# EAGLE library part MIMXRT1021DAG5A (library MIMXRT1021DAG5A)
Processors - Application Specialized i.MXRT1020 144LQFP Source: Datasheet <http://www.nxp.com/docs/en/data-sheet/IMXRT1020CEC.pdf>
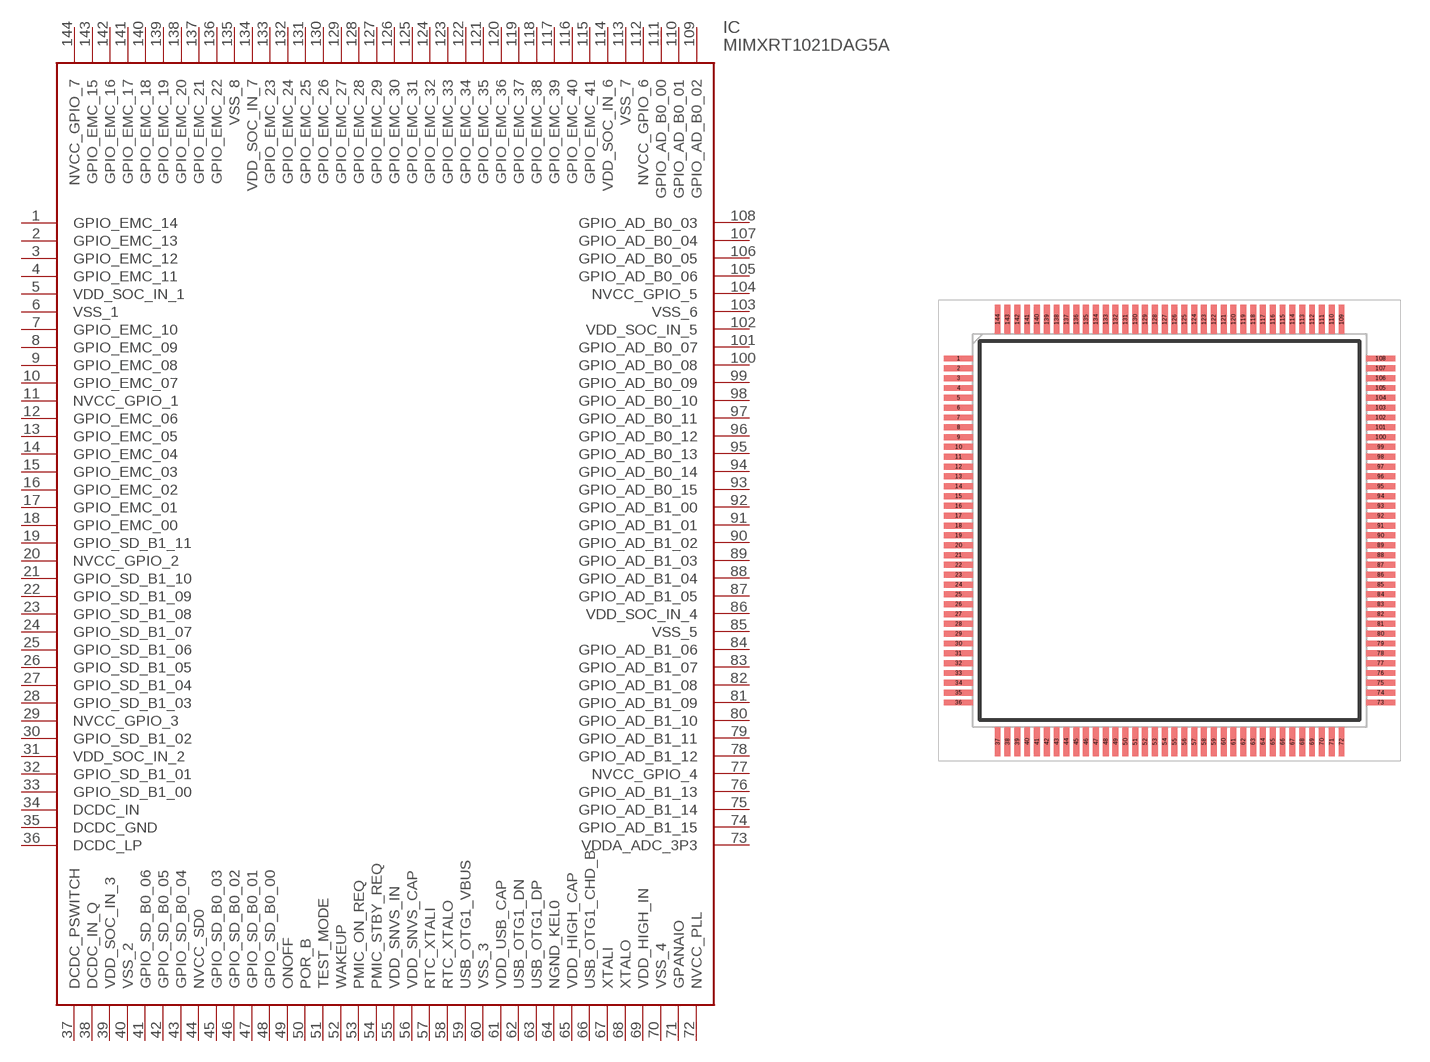
[diagram p0: symbol with the pads of QFP50P2200X2200X160-144N; footprint QFP50P2200X2200X160-144N]

Designator prefix IC

## MIMXRT1021DAG5A (Description: Processors - Application Specialized i.MXRT1020 144LQFP; Height: 1.6mm; Manufacturer_Name: NXP; Manufacturer_Part_Number: MIMXRT1021DAG5A; Mouser_Part_Number: 771-MIMXRT1021DAG5A; Mouser_Price-Stock: https://www.mouser.co.uk/ProductDetail/NXP-Semiconductors/MIMXRT1021DAG5A?qs=r5DSvlrkXmJQSAxQ927JGQ%3D%3D)  [QFP50P2200X2200X160-144N]
1  GPIO_EMC_14
2  GPIO_EMC_13
3  GPIO_EMC_12
4  GPIO_EMC_11
5  VDD_SOC_IN_1
6  VSS_1
7  GPIO_EMC_10
8  GPIO_EMC_09
9  GPIO_EMC_08
10  GPIO_EMC_07
11  NVCC_GPIO_1
12  GPIO_EMC_06
13  GPIO_EMC_05
14  GPIO_EMC_04
15  GPIO_EMC_03
16  GPIO_EMC_02
17  GPIO_EMC_01
18  GPIO_EMC_00
19  GPIO_SD_B1_11
20  NVCC_GPIO_2
21  GPIO_SD_B1_10
22  GPIO_SD_B1_09
23  GPIO_SD_B1_08
24  GPIO_SD_B1_07
25  GPIO_SD_B1_06
26  GPIO_SD_B1_05
27  GPIO_SD_B1_04
28  GPIO_SD_B1_03
29  NVCC_GPIO_3
30  GPIO_SD_B1_02
31  VDD_SOC_IN_2
32  GPIO_SD_B1_01
33  GPIO_SD_B1_00
34  DCDC_IN
35  DCDC_GND
36  DCDC_LP
37  DCDC_PSWITCH
38  DCDC_IN_Q
39  VDD_SOC_IN_3
40  VSS_2
41  GPIO_SD_B0_06
42  GPIO_SD_B0_05
43  GPIO_SD_B0_04
44  NVCC_SD0
45  GPIO_SD_B0_03
46  GPIO_SD_B0_02
47  GPIO_SD_B0_01
48  GPIO_SD_B0_00
49  ONOFF
50  POR_B
51  TEST_MODE
52  WAKEUP
53  PMIC_ON_REQ
54  PMIC_STBY_REQ
55  VDD_SNVS_IN
56  VDD_SNVS_CAP
57  RTC_XTALI
58  RTC_XTALO
59  USB_OTG1_VBUS
60  VSS_3
61  VDD_USB_CAP
62  USB_OTG1_DN
63  USB_OTG1_DP
64  NGND_KEL0
65  VDD_HIGH_CAP
66  USB_OTG1_CHD_B
67  XTALI
68  XTALO
69  VDD_HIGH_IN
70  VSS_4
71  GPANAIO
72  NVCC_PLL
73  VDDA_ADC_3P3
74  GPIO_AD_B1_15
75  GPIO_AD_B1_14
76  GPIO_AD_B1_13
77  NVCC_GPIO_4
78  GPIO_AD_B1_12
79  GPIO_AD_B1_11
80  GPIO_AD_B1_10
81  GPIO_AD_B1_09
82  GPIO_AD_B1_08
83  GPIO_AD_B1_07
84  GPIO_AD_B1_06
85  VSS_5
86  VDD_SOC_IN_4
87  GPIO_AD_B1_05
88  GPIO_AD_B1_04
89  GPIO_AD_B1_03
90  GPIO_AD_B1_02
91  GPIO_AD_B1_01
92  GPIO_AD_B1_00
93  GPIO_AD_B0_15
94  GPIO_AD_B0_14
95  GPIO_AD_B0_13
96  GPIO_AD_B0_12
97  GPIO_AD_B0_11
98  GPIO_AD_B0_10
99  GPIO_AD_B0_09
100  GPIO_AD_B0_08
101  GPIO_AD_B0_07
102  VDD_SOC_IN_5
103  VSS_6
104  NVCC_GPIO_5
105  GPIO_AD_B0_06
106  GPIO_AD_B0_05
107  GPIO_AD_B0_04
108  GPIO_AD_B0_03
109  GPIO_AD_B0_02
110  GPIO_AD_B0_01
111  GPIO_AD_B0_00
112  NVCC_GPIO_6
113  VSS_7
114  VDD_SOC_IN_6
115  GPIO_EMC_41
116  GPIO_EMC_40
117  GPIO_EMC_39
118  GPIO_EMC_38
119  GPIO_EMC_37
120  GPIO_EMC_36
121  GPIO_EMC_35
122  GPIO_EMC_34
123  GPIO_EMC_33
124  GPIO_EMC_32
125  GPIO_EMC_31
126  GPIO_EMC_30
127  GPIO_EMC_29
128  GPIO_EMC_28
129  GPIO_EMC_27
130  GPIO_EMC_26
131  GPIO_EMC_25
132  GPIO_EMC_24
133  GPIO_EMC_23
134  VDD_SOC_IN_7
135  VSS_8
136  GPIO_EMC_22
137  GPIO_EMC_21
138  GPIO_EMC_20
139  GPIO_EMC_19
140  GPIO_EMC_18
141  GPIO_EMC_17
142  GPIO_EMC_16
143  GPIO_EMC_15
144  NVCC_GPIO_7

## Footprint QFP50P2200X2200X160-144N (pad centres in mm)
SOT486-2
smd 1.475 x 0.3: 1 -10.738,8.75; 2 -10.738,8.25; 3 -10.738,7.75; 4 -10.738,7.25; 5 -10.738,6.75; 6 -10.738,6.25; 7 -10.738,5.75; 8 -10.738,5.25; 9 -10.738,4.75; 10 -10.738,4.25; 11 -10.738,3.75; 12 -10.738,3.25; 13 -10.738,2.75; 14 -10.738,2.25; 15 -10.738,1.75; 16 -10.738,1.25; 17 -10.738,0.75; 18 -10.738,0.25; 19 -10.738,-0.25; 20 -10.738,-0.75; 21 -10.738,-1.25; 22 -10.738,-1.75; 23 -10.738,-2.25; 24 -10.738,-2.75; 25 -10.738,-3.25; 26 -10.738,-3.75; 27 -10.738,-4.25; 28 -10.738,-4.75; 29 -10.738,-5.25; 30 -10.738,-5.75; 31 -10.738,-6.25; 32 -10.738,-6.75; 33 -10.738,-7.25; 34 -10.738,-7.75; 35 -10.738,-8.25; 36 -10.738,-8.75; 73 10.738,-8.75; 74 10.738,-8.25; 75 10.738,-7.75; 76 10.738,-7.25; 77 10.738,-6.75; 78 10.738,-6.25; 79 10.738,-5.75; 80 10.738,-5.25; 81 10.738,-4.75; 82 10.738,-4.25; 83 10.738,-3.75; 84 10.738,-3.25; 85 10.738,-2.75; 86 10.738,-2.25; 87 10.738,-1.75; 88 10.738,-1.25; 89 10.738,-0.75; 90 10.738,-0.25; 91 10.738,0.25; 92 10.738,0.75; 93 10.738,1.25; 94 10.738,1.75; 95 10.738,2.25; 96 10.738,2.75; 97 10.738,3.25; 98 10.738,3.75; 99 10.738,4.25; 100 10.738,4.75; 101 10.738,5.25; 102 10.738,5.75; 103 10.738,6.25; 104 10.738,6.75; 105 10.738,7.25; 106 10.738,7.75; 107 10.738,8.25; 108 10.738,8.75
smd 0.3 x 1.475: 37 -8.75,-10.738; 38 -8.25,-10.738; 39 -7.75,-10.738; 40 -7.25,-10.738; 41 -6.75,-10.738; 42 -6.25,-10.738; 43 -5.75,-10.738; 44 -5.25,-10.738; 45 -4.75,-10.738; 46 -4.25,-10.738; 47 -3.75,-10.738; 48 -3.25,-10.738; 49 -2.75,-10.738; 50 -2.25,-10.738; 51 -1.75,-10.738; 52 -1.25,-10.738; 53 -0.75,-10.738; 54 -0.25,-10.738; 55 0.25,-10.738; 56 0.75,-10.738; 57 1.25,-10.738; 58 1.75,-10.738; 59 2.25,-10.738; 60 2.75,-10.738; 61 3.25,-10.738; 62 3.75,-10.738; 63 4.25,-10.738; 64 4.75,-10.738; 65 5.25,-10.738; 66 5.75,-10.738; 67 6.25,-10.738; 68 6.75,-10.738; 69 7.25,-10.738; 70 7.75,-10.738; 71 8.25,-10.738; 72 8.75,-10.738; 109 8.75,10.738; 110 8.25,10.738; 111 7.75,10.738; 112 7.25,10.738; 113 6.75,10.738; 114 6.25,10.738; 115 5.75,10.738; 116 5.25,10.738; 117 4.75,10.738; 118 4.25,10.738; 119 3.75,10.738; 120 3.25,10.738; 121 2.75,10.738; 122 2.25,10.738; 123 1.75,10.738; 124 1.25,10.738; 125 0.75,10.738; 126 0.25,10.738; 127 -0.25,10.738; 128 -0.75,10.738; 129 -1.25,10.738; 130 -1.75,10.738; 131 -2.25,10.738; 132 -2.75,10.738; 133 -3.25,10.738; 134 -3.75,10.738; 135 -4.25,10.738; 136 -4.75,10.738; 137 -5.25,10.738; 138 -5.75,10.738; 139 -6.25,10.738; 140 -6.75,10.738; 141 -7.25,10.738; 142 -7.75,10.738; 143 -8.25,10.738; 144 -8.75,10.738